# EAGLE library part SERVO-4 (library connector)
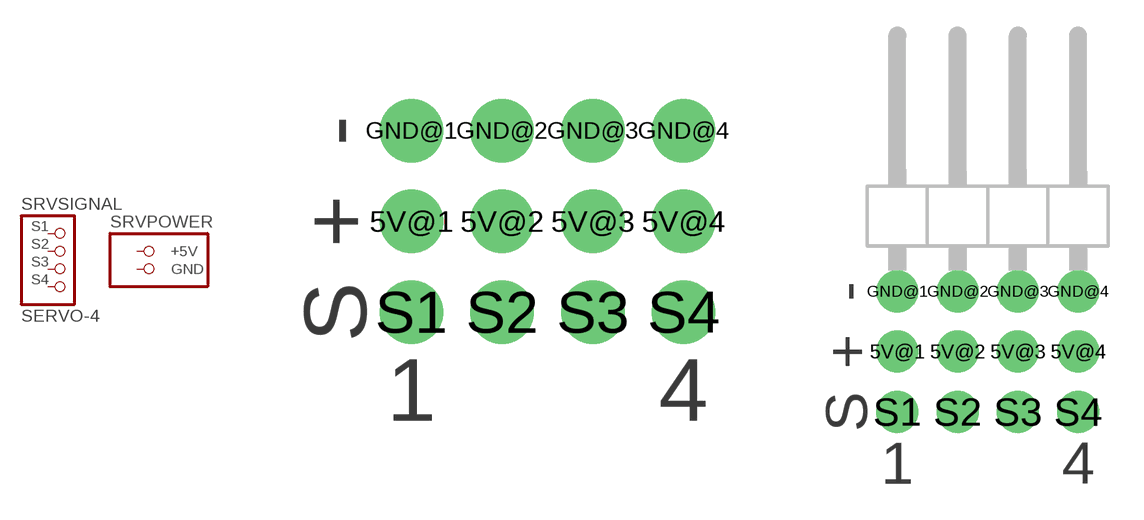
[diagram p0: symbol with the pads of SERVO-04; footprints SERVO-04, SERVO-04/90]

Designator prefix SRV; gates SIGNAL=HEADER-4POS POWER=PWR5V

## SERVO-4  [SERVO-04]
5V@1  POWER:+5V  pwr
5V@2  POWER:+5V  pwr
5V@3  POWER:+5V  pwr
5V@4  POWER:+5V  pwr
GND@1  POWER:GND  pwr
GND@2  POWER:GND  pwr
GND@3  POWER:GND  pwr
GND@4  POWER:GND  pwr
S1  SIGNAL:P$1
S2  SIGNAL:P$2
S3  SIGNAL:P$3
S4  SIGNAL:P$4

## SERVO-4/90  [SERVO-04/90]
Pads as for SERVO-04

## Footprint SERVO-04 (pad centres in mm)
drill 1 pad 1.778: 5V@1 -5.08,0; 5V@2 -2.54,0; 5V@3 0,0; 5V@4 2.54,0; GND@1 -5.08,2.54; GND@2 -2.54,2.54; GND@3 0,2.54; GND@4 2.54,2.54; S1 -5.08,-2.54; S2 -2.54,-2.54; S3 0,-2.54; S4 2.54,-2.54

## Footprint SERVO-04/90 (pad centres in mm)
drill 1 pad 1.778: 5V@1 -5.08,0; 5V@2 -2.54,0; 5V@3 0,0; 5V@4 2.54,0; GND@1 -5.08,2.54; GND@2 -2.54,2.54; GND@3 0,2.54; GND@4 2.54,2.54; S1 -5.08,-2.54; S2 -2.54,-2.54; S3 0,-2.54; S4 2.54,-2.54